# Altium schematic symbol library MicrochipG.SchLib: 7 symbols
Pins are listed as number, name and electrical type; pins without a type are passive.

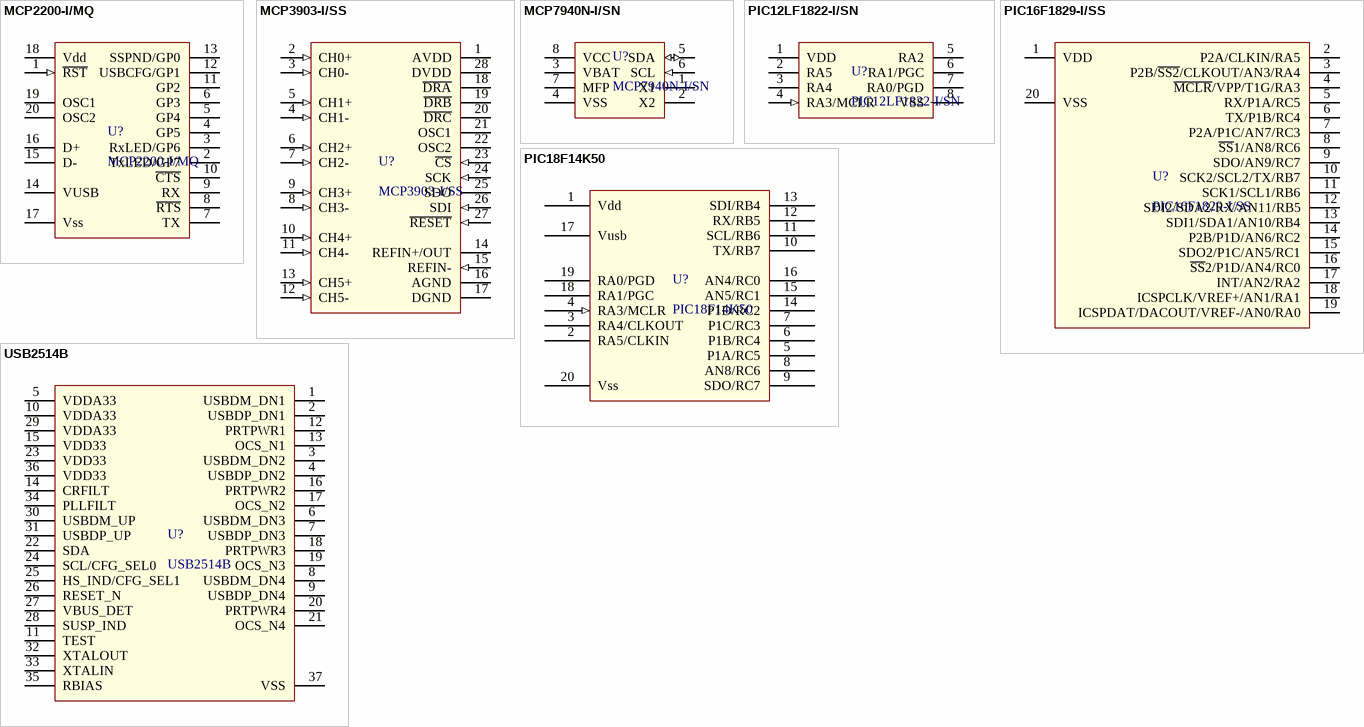
[diagram p0: symbols MCP2200-I/MQ to USB2514B]

## MCP2200-I/MQ
designator U?
USB 2.0 UART
footprint QFN-ML20_N (Footprint not found)
footprint QFN-ML20_M (Footprint not found)
footprint QFN-ML20_L (Footprint not found)
pins: 1 ~{RST} (in), 2 TxLED/GP7, 3 RxLED/GP6, 4 GP5, 5 GP4, 6 GP3, 7 TX, 8 ~{RTS}, 9 RX, 10 ~{CTS}, 11 GP2, 12 USBCFG/GP1, 13 SSPND/GP0, 14 VUSB, 15 D-, 16 D+, 17 Vss (power), 18 Vdd (power), 19 OSC1, 20 OSC2

## MCP3903-I/SS
designator U?
6-channel, 24-bit Analog Front End
footprint SSOP-28 (SSOP, Plastic; 28 Leads; Body Width 5.2 mm; Pitch 0.65 mm)
pins: 1 AVDD (power), 2 CH0+ (in), 3 CH0- (in), 4 CH1- (in), 5 CH1+ (in), 6 CH2+ (in), 7 CH2- (in), 8 CH3- (in), 9 CH3+ (in), 10 CH4+ (in), 11 CH4- (in), 12 CH5- (in), 13 CH5+ (in), 14 REFIN+/OUT, 15 REFIN- (in), 16 AGND (power), 17 DGND (power), 18 ~{DRA} (oc), 19 ~{DRB} (oc), 20 ~{DRC} (oc), 21 OSC1, 22 OSC2, 23 ~{CS} (in), 24 SCK (in), 25 SDO (hiz), 26 SDI (in), 27 ~{RESET} (in), 28 DVDD (power)

## MCP7940N-I/SN
designator U?
I2C Real-Time Clock/Calendar
footprint SOIC127P600-8N (SOIC, 8-Leads, Body 4.9x3.9mm, Pitch 1.27mm, IPC Medium Density)
pins: 1 X1, 2 X2, 3 VBAT, 4 VSS (power), 5 SDA (io), 6 SCL (in), 7 MFP, 8 VCC (power)

## PIC12LF1822-I/SN
designator U?
footprint SOIC127P600-8N (SOIC, 8-Leads, Body 4.9x3.9mm, Pitch 1.27mm, IPC Medium Density)
pins: 1 VDD (power), 2 RA5, 3 RA4, 4 RA3/MCLR (in), 5 RA2, 6 RA1/PGC, 7 RA0/PGD, 8 VSS (power)

## PIC16F1829-I/SS
designator U?
Supplier 1: Digi-Key; Supplier Part Number 1: PIC16F1829-I/SS-ND
footprint SSOP-20 (SSOP, Plastic; 20 Leads; Body Width 5.3 mm; Pitch 0.65 mm)
pins: 1 VDD, 2 P2A/CLKIN/RA5, 3 P2B/~{SS2}/CLKOUT/AN3/RA4, 4 ~{MCLR}/VPP/T1G/RA3, 5 RX/P1A/RC5, 6 TX/P1B/RC4, 7 P2A/P1C/AN7/RC3, 8 ~{SS}1/AN8/RC6, 9 SDO/AN9/RC7, 10 SCK2/SCL2/TX/RB7, 11 SCK1/SCL1/RB6, 12 SDI2/SDA2/RX/AN11/RB5, 13 SDI1/SDA1/AN10/RB4, 14 P2B/P1D/AN6/RC2, 15 SDO2/P1C/AN5/RC1, 16 ~{SS}2/P1D/AN4/RC0, 17 INT/AN2/RA2, 18 ICSPCLK/VREF+/AN1/RA1, 19 ICSPDAT/DACOUT/VREF-/AN0/RA0, 20 VSS

## PIC18F14K50
designator U?
footprint SSOP20_M (Footprint not found)
pins: 1 Vdd (power), 2 RA5/CLKIN, 3 RA4/CLKOUT, 4 RA3/MCLR (in), 5 P1A/RC5, 6 P1B/RC4, 7 P1C/RC3, 8 AN8/RC6, 9 SDO/RC7, 10 TX/RB7, 11 SCL/RB6, 12 RX/RB5, 13 SDI/RB4, 14 P1D/RC2, 15 AN5/RC1, 16 AN4/RC0, 17 Vusb, 18 RA1/PGC, 19 RA0/PGD, 20 Vss (power)

## USB2514B
designator U?
footprint QFN50P600X600X100_HS-37N (QFN, 36-Leads, Body 6.00x6.00mm, Pitch 0.50mm, Thermal Pad 3.70x3.70mm, IPC Medium Density)
pins: 1 USBDM_DN1, 2 USBDP_DN1, 3 USBDM_DN2, 4 USBDP_DN2, 5 VDDA33 (power), 6 USBDM_DN3, 7 USBDP_DN3, 8 USBDM_DN4, 9 USBDP_DN4, 10 VDDA33, 11 TEST, 12 PRTPWR1, 13 OCS_N1, 14 CRFILT, 15 VDD33, 16 PRTPWR2, 17 OCS_N2, 18 PRTPWR3, 19 OCS_N3, 20 PRTPWR4, 21 OCS_N4, 22 SDA, 23 VDD33, 24 SCL/CFG_SEL0, 25 HS_IND/CFG_SEL1, 26 RESET_N, 27 VBUS_DET, 28 SUSP_IND, 29 VDDA33, 30 USBDM_UP, 31 USBDP_UP, 32 XTALOUT, 33 XTALIN, 34 PLLFILT, 35 RBIAS, 36 VDD33, 37 VSS